# EAGLE library part IFX007T (library SumBot)
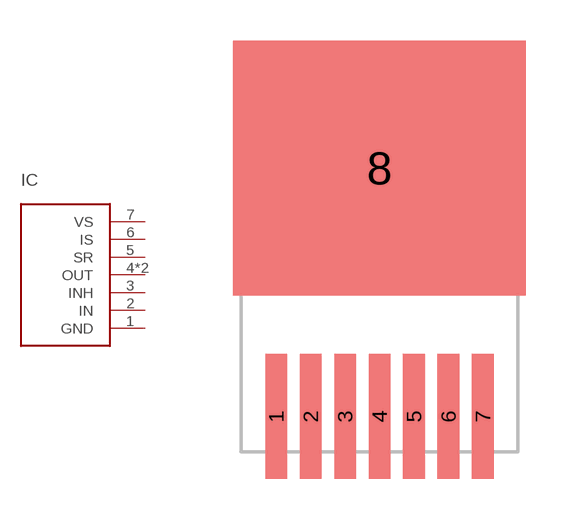
[diagram p1: symbol with the pads of TO127P1500X440-7N; footprint TO127P1500X440-7N]

Designator prefix IC

## IFX007T (PN: IFX007TAUMA1CT-ND)  [TO127P1500X440-7N]
1  GND
2  IN
3  INH
4  OUT
5  SR
6  IS
7  VS
8  OUT

## Footprint TO127P1500X440-7N (pad centres in mm)
7-TO, DPAK, 1.27 mm pitch, 15.00 mm span, 10.10 X 9.25 X 4.40 mm body 7-pin TO, DPAK package with 1.27 mm pitch, 15.00 mm span with body size 10.10 X 9.25 X 4.40 mm
smd 0.8 x 4.6: 1 -3.81,2.3; 2 -2.54,2.3; 3 -1.27,2.3; 4 0,2.3; 5 1.27,2.3; 6 2.54,2.3; 7 3.81,2.3
smd 10.8 x 9.4: 8 0,11.45